# Altium footprint library KBP.PcbLib: 1 footprints
Each footprint in its own frame and in the unit in brackets; x right, y up, seen from the top. Pads: shape width x height; smd on the part's side, far side on the other; paste and mask are expansions set on the pad; w line width, h text height; cw(c..) or ccw(c..) is an arc to the next point about the centre after c.
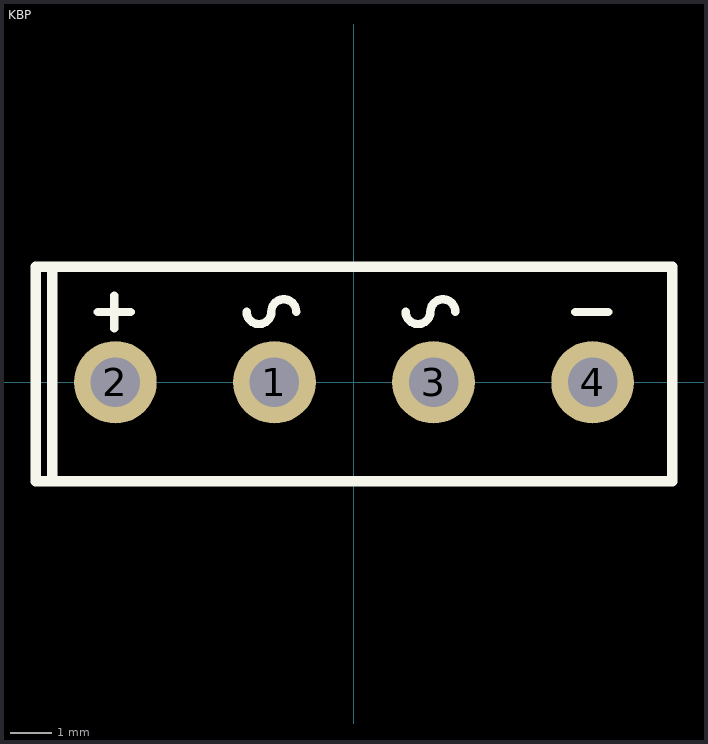
[diagram p0: the footprint, top view; thin cyan lines are the x and y axes]

## KBP [mm]
pads (4):
  round 2 hole 1.2: 1(-1.925,0) 2(-5.775,0) 3(1.925,0) 4(5.775,0)
Top Overlay:
  lines w0.203: -6.2,1.7 -5.4,1.7 ; -5.8,1.3 -5.8,2.1 ; -2.6,1.708 ccw(c-2.3,1.708) -2,1.708 cw(c-1.7,1.708) -1.4,1.708 ; 1.25,1.708 ccw(c1.55,1.708) 1.85,1.708 cw(c2.15,1.708) 2.45,1.708 ; 5.35,1.7 6.15,1.7
  lines w0.254: -7.3,-2.4 -7.3,2.8 ; -7.7,-2.4 7.7,-2.4 7.7,2.8 -7.7,2.8 -7.7,-2.4